# Altium footprint library LIbreria-Displays.PcbLib: 1 footprints
Each footprint in its own frame and in the unit in brackets; x right, y up, seen from the top. Pads: shape width x height; smd on the part's side, far side on the other; paste and mask are expansions set on the pad; w line width, h text height; cw(c..) or ccw(c..) is an arc to the next point about the centre after c.
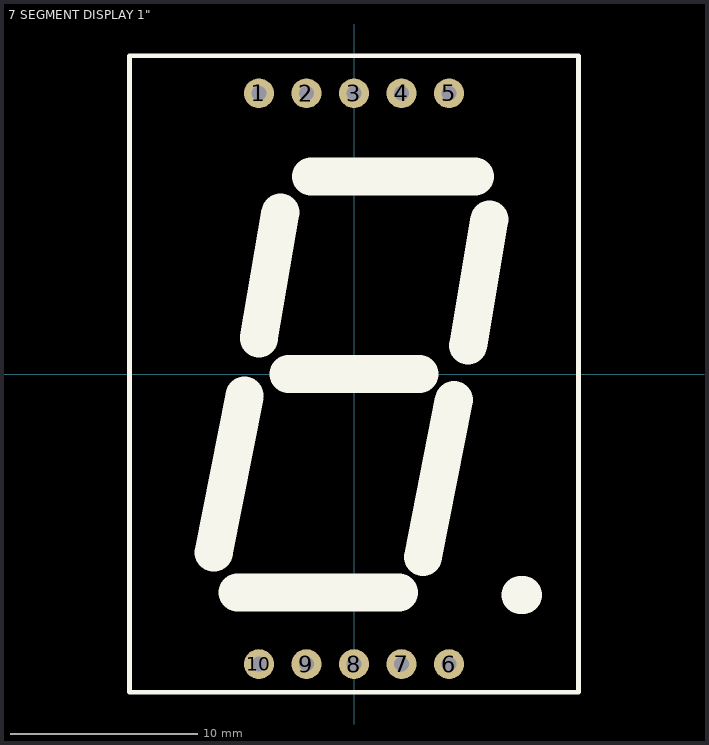
[diagram p0: the footprint, top view; thin cyan lines are the x and y axes]

## 7 SEGMENT DISPLAY 1" [mm] "7 SEGMENT DISPLAY 1\""
pads (10):
  round 1.6 hole 0.8: 1(-5.08,15) 2(-2.54,15) 3(0,15) 4(2.54,15) 5(5.08,15) 6(5.08,-15.5) 7(2.54,-15.5) 8(0,-15.5) 9(-2.54,-15.5) 10(-5.08,-15.5)
Top Overlay:
  lines w0.254: -12,-17 -12,17 12,17 12,-17 -12,-17
  lines w2.032: -7.493,-9.525 -5.842,-1.143 ; -6.223,-11.684 2.413,-11.684 ; -5.08,1.905 -3.937,8.636 ; -3.5,0 3.5,0 ; -2.286,10.541 6.477,10.541 ; 3.683,-9.779 5.334,-1.397 ; 6.096,1.524 7.239,8.255 ; 8.89,-11.811 9.017,-11.811
3D body "7-SEGMENT-254.stp": height 10.5, standoff -4.8, extent -12,-17.254 12,16.746